# Altium footprint library CONN_S3B-ZR-SM4A-TF(LF)(SN)_JST.PcbLib: 1 footprints
Each footprint in its own frame and in the unit in brackets; x right, y up, seen from the top. Pads: shape width x height; smd on the part's side, far side on the other; paste and mask are expansions set on the pad; w line width, h text height; cw(c..) or ccw(c..) is an arc to the next point about the centre after c.
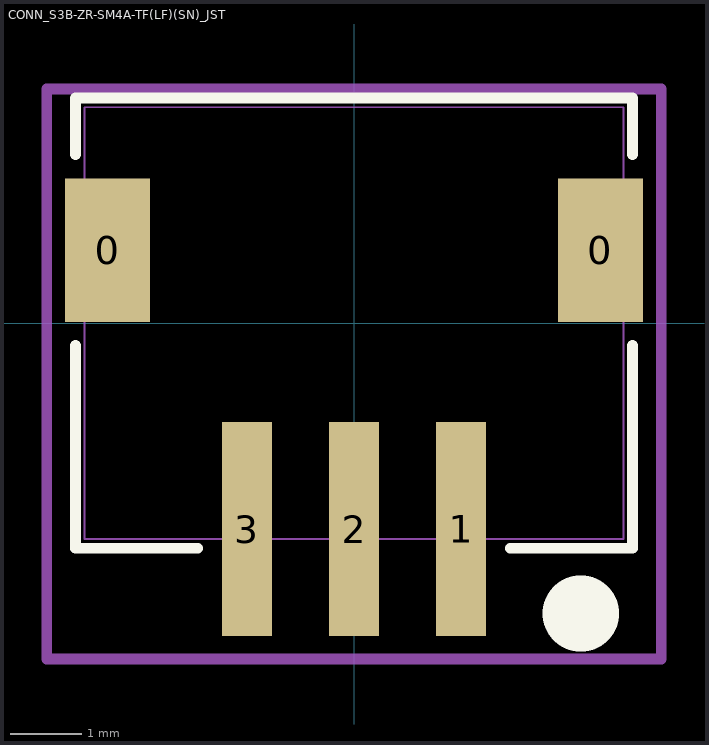
[diagram p0: the footprint, top view; thin cyan lines are the x and y axes]

## CONN_S3B-ZR-SM4A-TF(LF)(SN)_JST [mm]
pads (5):
  rect 1.194x2.007 smd: 0(-3.45,1.023) 0(3.45,1.023)
  rect 0.7x3 smd: 1(1.499,-2.881) 2(0,-2.881) 3(-1.499,-2.881)
Top Overlay:
  circle w1.016: c3.175,-4.064 r0.025
  lines w0.152: -3.899,-0.313 -3.899,-3.15 -2.187,-3.15 ; -3.899,2.359 -3.899,3.15 3.899,3.15 3.899,2.359 ; 2.187,-3.15 3.899,-3.15 3.899,-0.313
Mechanical 13:
  lines w0.025: -3.772,-3.023 -3.772,3.023 3.772,3.023 3.772,-3.023 -3.772,-3.023
Mechanical 15:
  lines w0.152: -4.301,-4.699 4.301,-4.699 4.301,3.277 -4.301,3.277 -4.301,-4.699
3D body "S3B-ZR-SM4A-TF.STEP": height 3.7, standoff 0, extent -3.75,-3.477 3.75,3.023